# Altium schematic symbol library 16z_addons.SchLib: 4 symbols
Pins are listed as number, name and electrical type; pins without a type are passive.

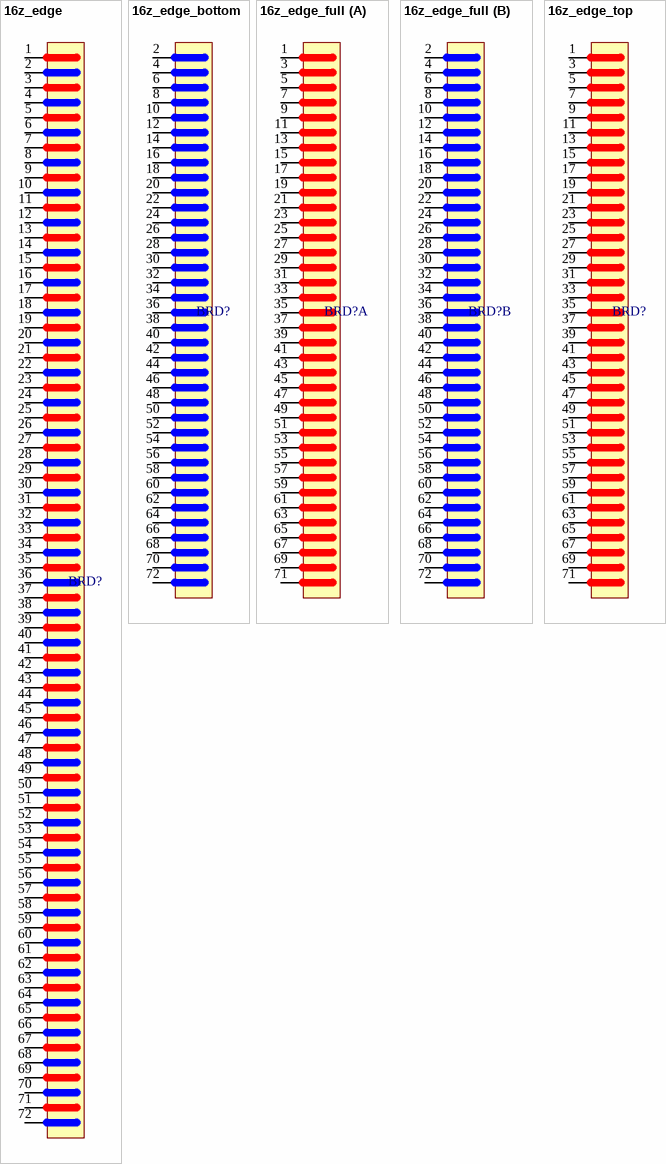
[diagram p0: symbols 16z_edge to 16z_edge_top]

## 16z_edge
designator BRD?, comment 16z  (value not drawn)  (graphical)
Toyaga 16z board edge connector
footprint 16z_sizeA (Toyaga 16z add-on card size A (115mm length))
footprint 16z_sizeB (Toyaga 16z add-on card size B (171mm length))
footprint 16z_sizeC (Toyaga 16z add-on card size C (224mm length))
pins: 1, 2, 3, 4, 5, 6, 7, 8, 9, 10, 11, 12, 13, 14, 15, 16, 17, 18, 19, 20, 21, 22, 23, 24, 25, 26, 27, 28, 29, 30, 31, 32, 33, 34, 35, 36, 37, 38, 39, 40, 41, 42, 43, 44, 45, 46, 47, 48, 49, 50, 51, 52, 53, 54, 55, 56, 57, 58, 59, 60, 61, 62, 63, 64, 65, 66, 67, 68, 69, 70, 71, 72

## 16z_edge_bottom
designator BRD?, comment 16z  (value not drawn)  (graphical)
Toyaga 16z board edge connector (bottom side only)
footprint 16z_sizeA (Toyaga 16z add-on card size A (115mm length))
footprint 16z_sizeB (Toyaga 16z add-on card size B (171mm length))
footprint 16z_sizeC (Toyaga 16z add-on card size C (224mm length))
pins: 2, 4, 6, 8, 10, 12, 14, 16, 18, 20, 22, 24, 26, 28, 30, 32, 34, 36, 38, 40, 42, 44, 46, 48, 50, 52, 54, 56, 58, 60, 62, 64, 66, 68, 70, 72

## 16z_edge_full
designator BRD?, comment 16z  (value not drawn)  (graphical)
Toyaga 16z board edge connector
footprint 16z_sizeA (Toyaga 16z add-on card size A (115mm length))
footprint 16z_sizeB (Toyaga 16z add-on card size B (171mm length))
footprint 16z_sizeC (Toyaga 16z add-on card size C (224mm length))
part A pins: 1, 3, 5, 7, 9, 11, 13, 15, 17, 19, 21, 23, 25, 27, 29, 31, 33, 35, 37, 39, 41, 43, 45, 47, 49, 51, 53, 55, 57, 59, 61, 63, 65, 67, 69, 71
part B pins: 2, 4, 6, 8, 10, 12, 14, 16, 18, 20, 22, 24, 26, 28, 30, 32, 34, 36, 38, 40, 42, 44, 46, 48, 50, 52, 54, 56, 58, 60, 62, 64, 66, 68, 70, 72

## 16z_edge_top
designator BRD?, comment 16z  (value not drawn)  (graphical)
Toyaga 16z board edge connector (top side only)
footprint 16z_sizeA (Toyaga 16z add-on card size A (115mm length))
footprint 16z_sizeB (Toyaga 16z add-on card size B (171mm length))
footprint 16z_sizeC (Toyaga 16z add-on card size C (224mm length))
pins: 1, 3, 5, 7, 9, 11, 13, 15, 17, 19, 21, 23, 25, 27, 29, 31, 33, 35, 37, 39, 41, 43, 45, 47, 49, 51, 53, 55, 57, 59, 61, 63, 65, 67, 69, 71